# EAGLE library part MCUATMEGA328P-MU (library akita)
Programmable Flash
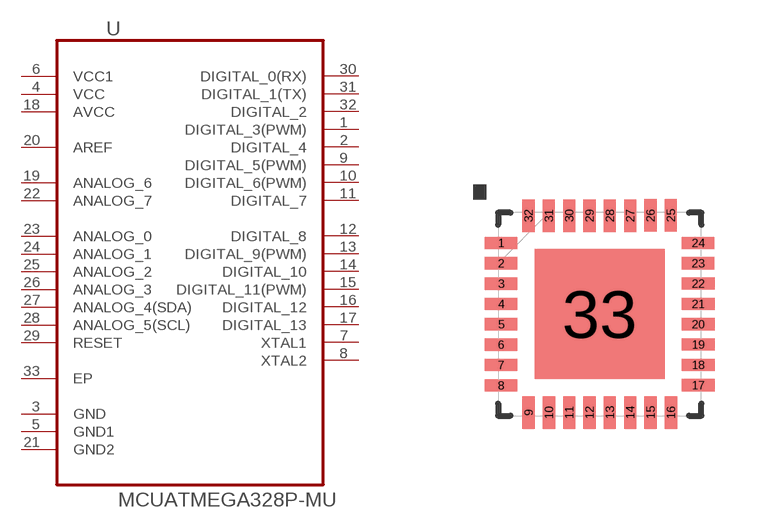
[diagram p42: symbol with the pads of QFN50P500X500X100-33N; footprint QFN50P500X500X100-33N]

Designator prefix U

## MCUATMEGA328P-MU (MPN: ATMEGA328P-MU; OC_FARNELL: 1748522; OC_NEWARK: 26R2526; PACKAGE: QFN-32; SUPPLIER: Atmel)  [QFN50P500X500X100-33N]
1  DIGITAL_3(PWM)
2  DIGITAL_4
3  GND  pas
4  VCC  pwr
5  GND1  pas
6  VCC1  pwr
7  XTAL1
8  XTAL2
9  DIGITAL_5(PWM)
10  DIGITAL_6(PWM)
11  DIGITAL_7
12  DIGITAL_8
13  DIGITAL_9(PWM)
14  DIGITAL_10
15  DIGITAL_11(PWM)
16  DIGITAL_12
17  DIGITAL_13
18  AVCC  pwr
19  ANALOG_6  in
20  AREF  in
21  GND2  pas
22  ANALOG_7  in
23  ANALOG_0
24  ANALOG_1
25  ANALOG_2
26  ANALOG_3
27  ANALOG_4(SDA)
28  ANALOG_5(SCL)
29  RESET
30  DIGITAL_0(RX)
31  DIGITAL_1(TX)
32  DIGITAL_2
33  EP  pas

## Footprint QFN50P500X500X100-33N (pad centres in mm)
smd 0.813 x 0.305: 1 -2.464,1.781; 2 -2.464,1.271; 3 -2.464,0.762; 4 -2.464,0.254; 5 -2.464,-0.254; 6 -2.464,-0.764; 7 -2.465,-1.274; 8 -2.465,-1.784; 17 2.464,-1.78; 18 2.464,-1.271; 19 2.464,-0.762; 20 2.464,-0.254; 21 2.464,0.254; 22 2.464,0.763; 23 2.461,1.272; 24 2.463,1.781
smd 0.305 x 0.813: 9 -1.778,-2.463; 10 -1.27,-2.465; 11 -0.762,-2.464; 12 -0.254,-2.464; 13 0.254,-2.464; 14 0.762,-2.464; 15 1.272,-2.464; 16 1.781,-2.463; 25 1.779,2.467; 26 1.27,2.467; 27 0.762,2.464; 28 0.254,2.464; 29 -0.254,2.464; 30 -0.762,2.464; 31 -1.271,2.461; 32 -1.78,2.461
smd 3.251 x 3.251: 33 0,0